# Altium schematic symbol library DIODE_ARRAY_5CH.SchLib: 1 symbol
Pins are listed as number, name and electrical type; pins without a type are passive.

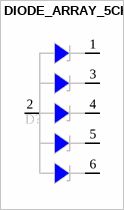
[diagram p0: symbol DIODE_ARRAY_5CH]

## DIODE_ARRAY_5CH
designator D?
DIODE TVS UNIDIR 3.3VWM 12VC SOT363
pins: 1 K1, 2 A, 3 K2, 4 K3, 5 K4, 6 K5